# Altium schematic symbol library Radial_10x10mm.SchLib: 1 symbol
Pins are listed as number, name and electrical type; pins without a type are passive.

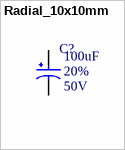
[diagram p0: symbol Radial_10x10mm]

## Radial_10x10mm
designator C?  Voltage Rating: 50V  Tolerance: 20%  Capacitance: 100uF
=Description; ComponentLink1Description: Datasheet; ComponentLink1URL: www.google.com
pins: 1, 2